# Altium schematic symbol library SCH - MCU - STM32 - ST MICROELECTRONICS STM32L151ZDTX LQFP144.SchLib: 1 symbol
Pins are listed as number, name and electrical type; pins without a type are passive.

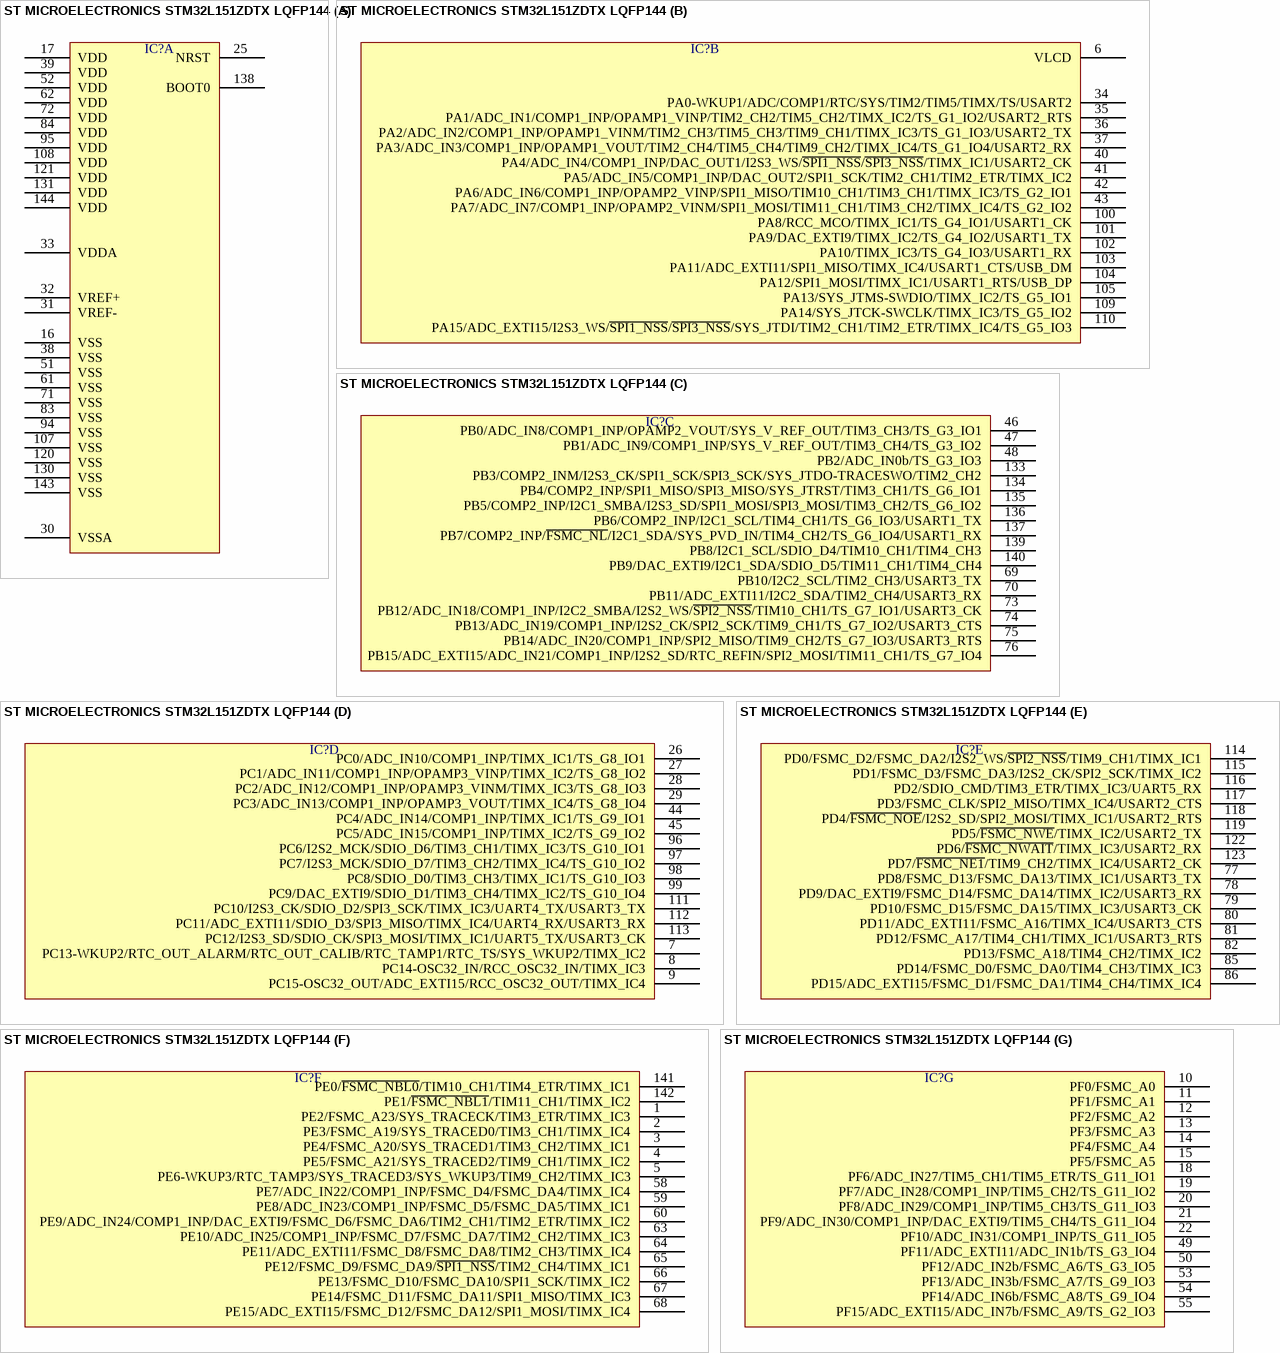
[diagram p0: symbol ST MICROELECTRONICS STM32L151ZDTX LQFP144]

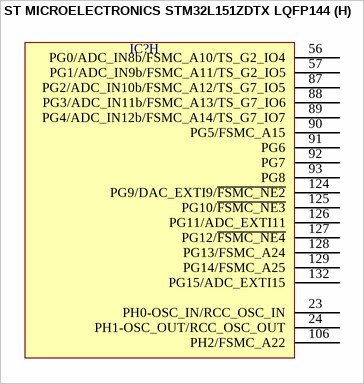
[diagram p1: symbol ST MICROELECTRONICS STM32L151ZDTX LQFP144]

## ST MICROELECTRONICS STM32L151ZDTX LQFP144
designator IC?  (value not drawn)
part A pins: 16 VSS, 17 VDD, 25 NRST, 30 VSSA, 31 VREF-, 32 VREF+, 33 VDDA, 38 VSS, 39 VDD, 51 VSS, 52 VDD, 61 VSS, 62 VDD, 71 VSS, 72 VDD, 83 VSS, 84 VDD, 94 VSS, 95 VDD, 107 VSS, 108 VDD, 120 VSS, 121 VDD, 130 VSS, 131 VDD, 138 BOOT0, 143 VSS, 144 VDD
part B pins: 6 VLCD, 34 PA0-WKUP1/ADC/COMP1/RTC/SYS/TIM2/TIM5/TIMX/TS/USART2, 35 PA1/ADC_IN1/COMP1_INP/OPAMP1_VINP/TIM2_CH2/TIM5_CH2/TIMX_IC2/TS_G1_IO2/USART2_RTS, 36 PA2/ADC_IN2/COMP1_INP/OPAMP1_VINM/TIM2_CH3/TIM5_CH3/TIM9_CH1/TIMX_IC3/TS_G1_IO3/USART2_TX, 37 PA3/ADC_IN3/COMP1_INP/OPAMP1_VOUT/TIM2_CH4/TIM5_CH4/TIM9_CH2/TIMX_IC4/TS_G1_IO4/USART2_RX, 40 PA4/ADC_IN4/COMP1_INP/DAC_OUT1/I2S3_WS/~{SPI1_NSS}/~{SPI3_NSS}/TIMX_IC1/USART2_CK, 41 PA5/ADC_IN5/COMP1_INP/DAC_OUT2/SPI1_SCK/TIM2_CH1/TIM2_ETR/TIMX_IC2, 42 PA6/ADC_IN6/COMP1_INP/OPAMP2_VINP/SPI1_MISO/TIM10_CH1/TIM3_CH1/TIMX_IC3/TS_G2_IO1, 43 PA7/ADC_IN7/COMP1_INP/OPAMP2_VINM/SPI1_MOSI/TIM11_CH1/TIM3_CH2/TIMX_IC4/TS_G2_IO2, 100 PA8/RCC_MCO/TIMX_IC1/TS_G4_IO1/USART1_CK, 101 PA9/DAC_EXTI9/TIMX_IC2/TS_G4_IO2/USART1_TX, 102 PA10/TIMX_IC3/TS_G4_IO3/USART1_RX, 103 PA11/ADC_EXTI11/SPI1_MISO/TIMX_IC4/USART1_CTS/USB_DM, 104 PA12/SPI1_MOSI/TIMX_IC1/USART1_RTS/USB_DP, 105 PA13/SYS_JTMS-SWDIO/TIMX_IC2/TS_G5_IO1, 109 PA14/SYS_JTCK-SWCLK/TIMX_IC3/TS_G5_IO2, 110 PA15/ADC_EXTI15/I2S3_WS/~{SPI1_NSS}/~{SPI3_NSS}/SYS_JTDI/TIM2_CH1/TIM2_ETR/TIMX_IC4/TS_G5_IO3
part C pins: 46 PB0/ADC_IN8/COMP1_INP/OPAMP2_VOUT/SYS_V_REF_OUT/TIM3_CH3/TS_G3_IO1, 47 PB1/ADC_IN9/COMP1_INP/SYS_V_REF_OUT/TIM3_CH4/TS_G3_IO2, 48 PB2/ADC_IN0b/TS_G3_IO3, 69 PB10/I2C2_SCL/TIM2_CH3/USART3_TX, 70 PB11/ADC_EXTI11/I2C2_SDA/TIM2_CH4/USART3_RX, 73 PB12/ADC_IN18/COMP1_INP/I2C2_SMBA/I2S2_WS/~{SPI2_NSS}/TIM10_CH1/TS_G7_IO1/USART3_CK, 74 PB13/ADC_IN19/COMP1_INP/I2S2_CK/SPI2_SCK/TIM9_CH1/TS_G7_IO2/USART3_CTS, 75 PB14/ADC_IN20/COMP1_INP/SPI2_MISO/TIM9_CH2/TS_G7_IO3/USART3_RTS, 76 PB15/ADC_EXTI15/ADC_IN21/COMP1_INP/I2S2_SD/RTC_REFIN/SPI2_MOSI/TIM11_CH1/TS_G7_IO4, 133 PB3/COMP2_INM/I2S3_CK/SPI1_SCK/SPI3_SCK/SYS_JTDO-TRACESWO/TIM2_CH2, 134 PB4/COMP2_INP/SPI1_MISO/SPI3_MISO/SYS_JTRST/TIM3_CH1/TS_G6_IO1, 135 PB5/COMP2_INP/I2C1_SMBA/I2S3_SD/SPI1_MOSI/SPI3_MOSI/TIM3_CH2/TS_G6_IO2, 136 PB6/COMP2_INP/I2C1_SCL/TIM4_CH1/TS_G6_IO3/USART1_TX, 137 PB7/COMP2_INP/~{FSMC_NL}/I2C1_SDA/SYS_PVD_IN/TIM4_CH2/TS_G6_IO4/USART1_RX, 139 PB8/I2C1_SCL/SDIO_D4/TIM10_CH1/TIM4_CH3, 140 PB9/DAC_EXTI9/I2C1_SDA/SDIO_D5/TIM11_CH1/TIM4_CH4
part D pins: 7 PC13-WKUP2/RTC_OUT_ALARM/RTC_OUT_CALIB/RTC_TAMP1/RTC_TS/SYS_WKUP2/TIMX_IC2, 8 PC14-OSC32_IN/RCC_OSC32_IN/TIMX_IC3, 9 PC15-OSC32_OUT/ADC_EXTI15/RCC_OSC32_OUT/TIMX_IC4, 26 PC0/ADC_IN10/COMP1_INP/TIMX_IC1/TS_G8_IO1, 27 PC1/ADC_IN11/COMP1_INP/OPAMP3_VINP/TIMX_IC2/TS_G8_IO2, 28 PC2/ADC_IN12/COMP1_INP/OPAMP3_VINM/TIMX_IC3/TS_G8_IO3, 29 PC3/ADC_IN13/COMP1_INP/OPAMP3_VOUT/TIMX_IC4/TS_G8_IO4, 44 PC4/ADC_IN14/COMP1_INP/TIMX_IC1/TS_G9_IO1, 45 PC5/ADC_IN15/COMP1_INP/TIMX_IC2/TS_G9_IO2, 96 PC6/I2S2_MCK/SDIO_D6/TIM3_CH1/TIMX_IC3/TS_G10_IO1, 97 PC7/I2S3_MCK/SDIO_D7/TIM3_CH2/TIMX_IC4/TS_G10_IO2, 98 PC8/SDIO_D0/TIM3_CH3/TIMX_IC1/TS_G10_IO3, 99 PC9/DAC_EXTI9/SDIO_D1/TIM3_CH4/TIMX_IC2/TS_G10_IO4, 111 PC10/I2S3_CK/SDIO_D2/SPI3_SCK/TIMX_IC3/UART4_TX/USART3_TX, 112 PC11/ADC_EXTI11/SDIO_D3/SPI3_MISO/TIMX_IC4/UART4_RX/USART3_RX, 113 PC12/I2S3_SD/SDIO_CK/SPI3_MOSI/TIMX_IC1/UART5_TX/USART3_CK
part E pins: 77 PD8/FSMC_D13/FSMC_DA13/TIMX_IC1/USART3_TX, 78 PD9/DAC_EXTI9/FSMC_D14/FSMC_DA14/TIMX_IC2/USART3_RX, 79 PD10/FSMC_D15/FSMC_DA15/TIMX_IC3/USART3_CK, 80 PD11/ADC_EXTI11/FSMC_A16/TIMX_IC4/USART3_CTS, 81 PD12/FSMC_A17/TIM4_CH1/TIMX_IC1/USART3_RTS, 82 PD13/FSMC_A18/TIM4_CH2/TIMX_IC2, 85 PD14/FSMC_D0/FSMC_DA0/TIM4_CH3/TIMX_IC3, 86 PD15/ADC_EXTI15/FSMC_D1/FSMC_DA1/TIM4_CH4/TIMX_IC4, 114 PD0/FSMC_D2/FSMC_DA2/I2S2_WS/~{SPI2_NSS}/TIM9_CH1/TIMX_IC1, 115 PD1/FSMC_D3/FSMC_DA3/I2S2_CK/SPI2_SCK/TIMX_IC2, 116 PD2/SDIO_CMD/TIM3_ETR/TIMX_IC3/UART5_RX, 117 PD3/FSMC_CLK/SPI2_MISO/TIMX_IC4/USART2_CTS, 118 PD4/~{FSMC_NOE}/I2S2_SD/SPI2_MOSI/TIMX_IC1/USART2_RTS, 119 PD5/~{FSMC_NWE}/TIMX_IC2/USART2_TX, 122 PD6/~{FSMC_NWAIT}/TIMX_IC3/USART2_RX, 123 PD7/~{FSMC_NE1}/TIM9_CH2/TIMX_IC4/USART2_CK
part F pins: 1 PE2/FSMC_A23/SYS_TRACECK/TIM3_ETR/TIMX_IC3, 2 PE3/FSMC_A19/SYS_TRACED0/TIM3_CH1/TIMX_IC4, 3 PE4/FSMC_A20/SYS_TRACED1/TIM3_CH2/TIMX_IC1, 4 PE5/FSMC_A21/SYS_TRACED2/TIM9_CH1/TIMX_IC2, 5 PE6-WKUP3/RTC_TAMP3/SYS_TRACED3/SYS_WKUP3/TIM9_CH2/TIMX_IC3, 58 PE7/ADC_IN22/COMP1_INP/FSMC_D4/FSMC_DA4/TIMX_IC4, 59 PE8/ADC_IN23/COMP1_INP/FSMC_D5/FSMC_DA5/TIMX_IC1, 60 PE9/ADC_IN24/COMP1_INP/DAC_EXTI9/FSMC_D6/FSMC_DA6/TIM2_CH1/TIM2_ETR/TIMX_IC2, 63 PE10/ADC_IN25/COMP1_INP/FSMC_D7/FSMC_DA7/TIM2_CH2/TIMX_IC3, 64 PE11/ADC_EXTI11/FSMC_D8/FSMC_DA8/TIM2_CH3/TIMX_IC4, 65 PE12/FSMC_D9/FSMC_DA9/~{SPI1_NSS}/TIM2_CH4/TIMX_IC1, 66 PE13/FSMC_D10/FSMC_DA10/SPI1_SCK/TIMX_IC2, 67 PE14/FSMC_D11/FSMC_DA11/SPI1_MISO/TIMX_IC3, 68 PE15/ADC_EXTI15/FSMC_D12/FSMC_DA12/SPI1_MOSI/TIMX_IC4, 141 PE0/~{FSMC_NBL0}/TIM10_CH1/TIM4_ETR/TIMX_IC1, 142 PE1/~{FSMC_NBL1}/TIM11_CH1/TIMX_IC2
part G pins: 10 PF0/FSMC_A0, 11 PF1/FSMC_A1, 12 PF2/FSMC_A2, 13 PF3/FSMC_A3, 14 PF4/FSMC_A4, 15 PF5/FSMC_A5, 18 PF6/ADC_IN27/TIM5_CH1/TIM5_ETR/TS_G11_IO1, 19 PF7/ADC_IN28/COMP1_INP/TIM5_CH2/TS_G11_IO2, 20 PF8/ADC_IN29/COMP1_INP/TIM5_CH3/TS_G11_IO3, 21 PF9/ADC_IN30/COMP1_INP/DAC_EXTI9/TIM5_CH4/TS_G11_IO4, 22 PF10/ADC_IN31/COMP1_INP/TS_G11_IO5, 49 PF11/ADC_EXTI11/ADC_IN1b/TS_G3_IO4, 50 PF12/ADC_IN2b/FSMC_A6/TS_G3_IO5, 53 PF13/ADC_IN3b/FSMC_A7/TS_G9_IO3, 54 PF14/ADC_IN6b/FSMC_A8/TS_G9_IO4, 55 PF15/ADC_EXTI15/ADC_IN7b/FSMC_A9/TS_G2_IO3
part H pins: 23 PH0-OSC_IN/RCC_OSC_IN, 24 PH1-OSC_OUT/RCC_OSC_OUT, 56 PG0/ADC_IN8b/FSMC_A10/TS_G2_IO4, 57 PG1/ADC_IN9b/FSMC_A11/TS_G2_IO5, 87 PG2/ADC_IN10b/FSMC_A12/TS_G7_IO5, 88 PG3/ADC_IN11b/FSMC_A13/TS_G7_IO6, 89 PG4/ADC_IN12b/FSMC_A14/TS_G7_IO7, 90 PG5/FSMC_A15, 91 PG6, 92 PG7, 93 PG8, 106 PH2/FSMC_A22, 124 PG9/DAC_EXTI9/~{FSMC_NE2}, 125 PG10/~{FSMC_NE3}, 126 PG11/ADC_EXTI11, 127 PG12/~{FSMC_NE4}, 128 PG13/FSMC_A24, 129 PG14/FSMC_A25, 132 PG15/ADC_EXTI15